# Altium footprint library IC_Sensor.PcbLib: 2 footprints
Each footprint in its own frame and in the unit in brackets; x right, y up, seen from the top. Pads: shape width x height; smd on the part's side, far side on the other; paste and mask are expansions set on the pad; w line width, h text height; cw(c..) or ccw(c..) is an arc to the next point about the centre after c.
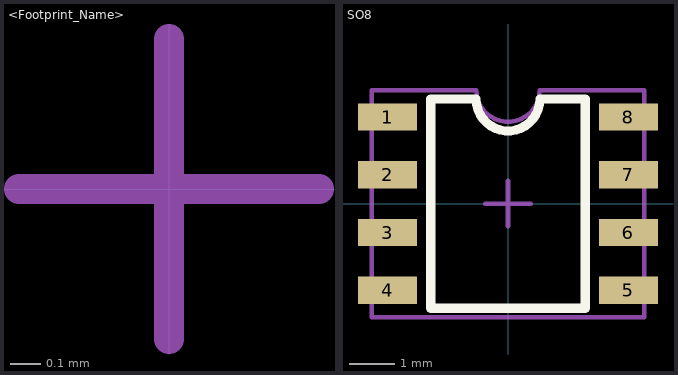
[diagram p0: the footprints below, top view; thin cyan lines are the x and y axes]

## <Footprint_Name> [mm] "<Package_Name>, <Number_of_pins>, <Pitch_in_mm>"
height 2.5
ReperDotTop:
  lines w0.1: -0.5,0 0.5,0 ; 0,-0.5 0,0.5
AssemblyOutlineTop:
  text "'.Designator'" at 0,0 h2.5

## SO8 [mm] "SOT96-1 Package, 8 pin, Pitch 1.27mm"
height 2.5
pads (8):
  rect 1.3x0.6 smd: 1(-2.65,1.905) 2(-2.65,0.635) 3(-2.65,-0.635) 4(-2.65,-1.905) 5(2.65,-1.905) 6(2.65,-0.635) 7(2.65,0.635) 8(2.65,1.905)
Top Overlay:
  lines w0.2: -1.7,-2.3 1.7,-2.3 1.7,2.3 0.7,2.3 cw(c0,2.3) -0.7,2.3 -1.7,2.3 -1.7,-2.3
ReperDotTop:
  lines w0.1: -0.5,0 0.5,0 ; 0,-0.5 0,0.5
AssemblyOutlineTop:
  lines w0.1: -3,-2.5 3,-2.5 3,2.5 0.7,2.5 cw(c0,2.5) -0.7,2.5 -3,2.5 -3,-2.5
  text "'.Designator'" at 0,0 h2.5
3D body "CircuitWorks-SO-8.step": height 1.45, standoff 0, extent -2.903,-2.45 2.875,2.452